# Altium integrated library ON Semi Signal Management Operational Amplifiers.IntLib: 435 symbols (part 12 of 12)
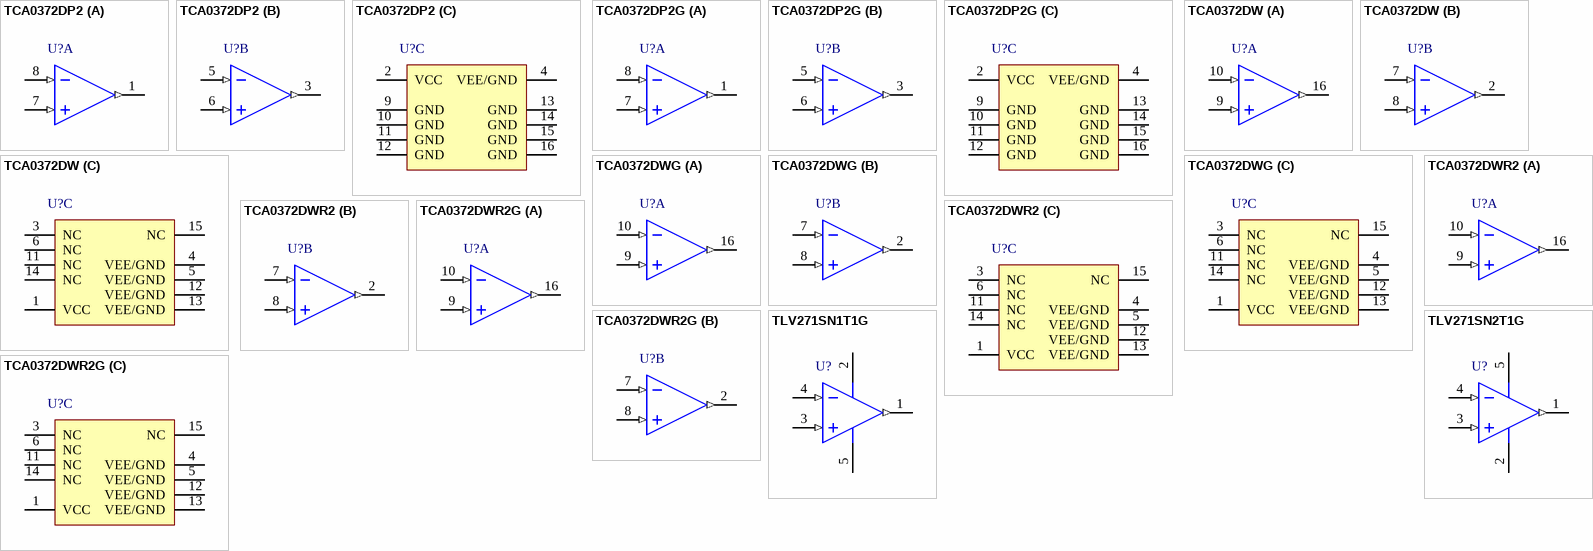
[diagram p36: symbols TCA0372DP2 to TLV271SN2T1G]

## TCA0372DWR2G
designator U?
1.0 A Output Current, Dual Power Operational Amplifier, -40 to 125 degC, 16-Pin SOIC, Pb-Free, Tape and Reel; Manufacturer: On Semiconductor; PartNumber: TCA0372DWR2G; GBW Typ (MHz): 1.4; DatasheetVersion: Rev. 11; PackageVersion: Rev. D, 02/2013; PackageReference: SOIC-16-751G-03; PackageDescription: 16-Pin Small Outline Integrated Circuit, Body 10.3 x 7.5 mm, Pitch 1.27 mm; Supplier 1: Digi-Key; Supplier Part Number 1: TCA0372DWR2GOSTR-ND; Supplier 2: Digi-Key; Supplier Part Number 2: TCA0372DWR2GOSCT-ND; Supplier 3: Digi-Key; Supplier Part Number 3: TCA0372DWR2GOSDKR-ND; Supplier 4: Farnell; Supplier Part Number 4: 1277937; Supplier 5: Newark; Supplier Part Number 5: 26K5199; Supplier 6: Newark; Supplier Part Number 6: 29X6237; Supplier 7: Mouser; Supplier Part Number 7: 863-TCA0372DWR2G; Packing: Tape and Reel; RoHS: TRUE; SR Typ (V/uS): 1.4; Mounting Technology: Surface Mount; ComponentLink1Description: Manufacturer URL; ComponentLink1URL: http://www.onsemi.com/; ComponentLink2Description: Datasheet; ComponentLink2URL: http://www.onsemi.cn/pub_link/Collateral/TCA0372-D.PDF; ComponentLink3Description: Package Specification; ComponentLink3URL: http://www.onsemi.com/pub_link/Collateral/751G-03.PDF
footprint ONSC-SOIC-16-751G-03_V (SOIC, 16-Leads, Body 10.45x7.6mm, Pitch 1.27mm)
part A pins: 9 INA+ (in), 10 INA- (in), 16 OUTA (out)
part B pins: 2 OUTB (out), 7 INB- (in), 8 INB+ (in)
part C pins: 1 VCC (power), 3 NC, 4 VEE/GND (power), 5 VEE/GND (power), 6 NC, 11 NC, 12 VEE/GND (power), 13 VEE/GND (power), 14 NC, 15 NC

## TLV271SN1T1G
designator U?
Single-Channel, Rail-to-Rail Output, 3 MHz BW Operational Amplifier, 2.7 to 16 V, -40 to 105 degC, 5-Pin TSOP, Pb-Free, Tape and Reel; Manufacturer: On Semiconductor; PartNumber: TLV271SN1T1G; VCC Max (V): 16; VCC Min (V): 2.7; DatasheetVersion: Rev. 4; PackageVersion: Rev. K, 04/2013; PackageReference: TSOP-5-483-02; PackageDescription: 5-Pin Small Outline Package, Body 3 x 1.5 mm, Pitch 0.95 mm; Supplier 1: Digi-Key; Supplier Part Number 1: TLV271SN1T1GOSTR-ND; Supplier 2: Digi-Key; Supplier Part Number 2: TLV271SN1T1GOSCT-ND; Supplier 3: Digi-Key; Supplier Part Number 3: TLV271SN1T1GOSDKR-ND; Supplier 4: Farnell; Supplier Part Number 4: 1924929; Supplier 5: Newark; Supplier Part Number 5: 58T2299; Supplier 6: Mouser; Supplier Part Number 6: 863-TLV271SN1T1G; Packing: Tape and Reel; RoHS: TRUE; Mounting Technology: Surface Mount; ComponentLink1Description: Manufacturer URL; ComponentLink1URL: http://www.onsemi.com/; ComponentLink2Description: Datasheet; ComponentLink2URL: http://www.onsemi.cn/pub_link/Collateral/TLV271-D.PDF; ComponentLink3Description: Package Specification; ComponentLink3URL: http://www.onsemi.com/pub_link/Collateral/483.PDF
footprint ONSC-TSOP-5-483-02_V (SOP, 5-Leads, Body 3x1.5mm, Pitch 0.95mm)
pins: 1 OUT (out), 2 VDD (power), 3 IN+ (in), 4 IN- (in), 5 VEE (power)

## TLV271SN2T1G
designator U?
Single-Channel, Rail-to-Rail Output, 3 MHz BW Operational Amplifier, 2.7 to 16 V, -40 to 105 degC, 5-Pin TSOP, Pb-Free, Tape and Reel; Manufacturer: On Semiconductor; PartNumber: TLV271SN2T1G; VCC Max (V): 16; VCC Min (V): 2.7; DatasheetVersion: Rev. 4; PackageVersion: Rev. K, 04/2013; PackageReference: TSOP-5-483-02; PackageDescription: 5-Pin Small Outline Package, Body 3 x 1.5 mm, Pitch 0.95 mm; Supplier 1: Digi-Key; Supplier Part Number 1: TLV271SN2T1GOSTR-ND; Supplier 2: Digi-Key; Supplier Part Number 2: TLV271SN2T1GOSCT-ND; Supplier 3: Digi-Key; Supplier Part Number 3: TLV271SN2T1GOSDKR-ND; Supplier 4: Farnell; Supplier Part Number 4: 1924931; Supplier 5: Farnell; Supplier Part Number 5: 1924931RL; Supplier 6: Newark; Supplier Part Number 6: 58T2300; Supplier 7: Newark; Supplier Part Number 7: 52T8746; Supplier 8: Mouser; Supplier Part Number 8: 863-TLV271SN2T1G; Packing: Tape and Reel; RoHS: TRUE; Mounting Technology: Surface Mount; ComponentLink1Description: Manufacturer URL; ComponentLink1URL: http://www.onsemi.com/; ComponentLink2Description: Datasheet; ComponentLink2URL: http://www.onsemi.cn/pub_link/Collateral/TLV271-D.PDF; ComponentLink3Description: Package Specification; ComponentLink3URL: http://www.onsemi.com/pub_link/Collateral/483.PDF
footprint ONSC-TSOP-5-483-02_V (SOP, 5-Leads, Body 3x1.5mm, Pitch 0.95mm)
pins: 1 OUT (out), 2 VEE (power), 3 IN+ (in), 4 IN- (in), 5 VDD (power)